# Altium integrated library Motorola Interface Darlington Driver.IntLib: 2 symbols
Pins are listed as number, name and electrical type; pins without a type are passive.

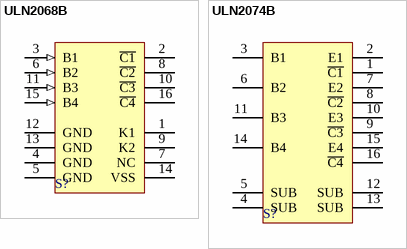
[diagram p0: symbols ULN2068B to ULN2074B]

## ULN2068B
designator S?
Quad 1.5A Darlington Switch; Published: 17-Jul-2002; LatestRevisionDate: 06-Jun-2005; LatestRevisionNote: Stylized 3D Model Added.; DatasheetVersion: 1988; PackageReference: 648C-02; Publisher: Altium Limited; PackageDescription: DIP; 16 Leads; Row Spacing 7.62 mm; Pitch 2.54 mm
footprint 648C-02 (DIP; 16 Leads; Row Spacing 7.62 mm; Pitch 2.54 mm)
3D model 648C-02 (DIP; 16 Leads; Row Spacing 7.62 mm; Pitch 2.54 mm)
pins: 1 K1, 2 ~{C1} (oc), 3 B1 (in), 4 GND (power), 5 GND (power), 6 B2 (in), 7 NC, 8 ~{C2} (oc), 9 K2, 10 ~{C3} (oc), 11 B3 (in), 12 GND (power), 13 GND (power), 14 VSS (power), 15 B4 (in), 16 ~{C4} (oc)

## ULN2074B
designator S?
Quad 1.5A Darlington Switch; Published: 17-Jul-2002; LatestRevisionDate: 06-Jun-2005; LatestRevisionNote: Stylized 3D Model Added.; DatasheetVersion: 1988; PackageReference: 648C-02; Publisher: Altium Limited; PackageDescription: DIP; 16 Leads; Row Spacing 7.62 mm; Pitch 2.54 mm
footprint 648C-02 (DIP; 16 Leads; Row Spacing 7.62 mm; Pitch 2.54 mm)
3D model 648C-02 (DIP; 16 Leads; Row Spacing 7.62 mm; Pitch 2.54 mm)
pins: 1 ~{C1}, 2 E1, 3 B1, 4 SUB (power), 5 SUB (power), 6 B2, 7 E2, 8 ~{C2}, 9 ~{C3}, 10 E3, 11 B3, 12 SUB (power), 13 SUB (power), 14 B4, 15 E4, 16 ~{C4}